# EAGLE library part WSEN-TIDS_2521020222501 (library WSEN)
WSEN-TIDS Temperature Sensor IC Details see: www.we-online.com/en/components/products/WSEN-TIDS
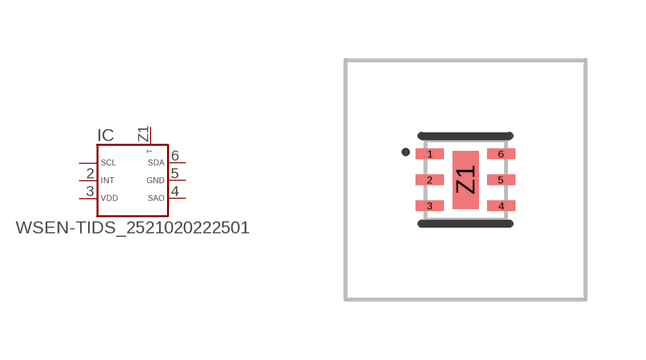
[diagram p18: symbol with the pads of WSEN-TIDS_2521020222501; footprint WSEN-TIDS_2521020222501]

Designator prefix IC

## WSEN-TIDS_2521020222501 (DATASHEET: https://www.we-online.com/redexpert/spec/2521020222501?ae; HEIGHT: 0.55mm; MANUFACTURER: Würth Elektronik; MOUNT: SMT; PART-NUMBER: 2521020222501; VALUE: 2521020222501)  [WSEN-TIDS_2521020222501]
1  SCL
2  INT
3  VDD  pwr
4  SAO
5  GND  pwr
6  SDA
Z1  P$1

## Footprint WSEN-TIDS_2521020222501 (pad centres in mm)
WSEN-TIDS Temperature Sensor IC SMT, 6pins LXWXH=2mmX2mmX0.55mm
smd 0.7 x 0.27: 1 -0.89,0.65; 2 -0.89,0; 3 -0.89,-0.65; 4 0.89,-0.65; 5 0.89,0; 6 0.89,0.65
smd 0.65 x 1.45: Z1 0,0